# Altium footprint library OBDH_Ed01r1.PcbLib: 5 footprints
Each footprint in its own frame and in the unit in brackets; x right, y up, seen from the top. Pads: shape width x height; smd on the part's side, far side on the other; paste and mask are expansions set on the pad; w line width, h text height; cw(c..) or ccw(c..) is an arc to the next point about the centre after c.
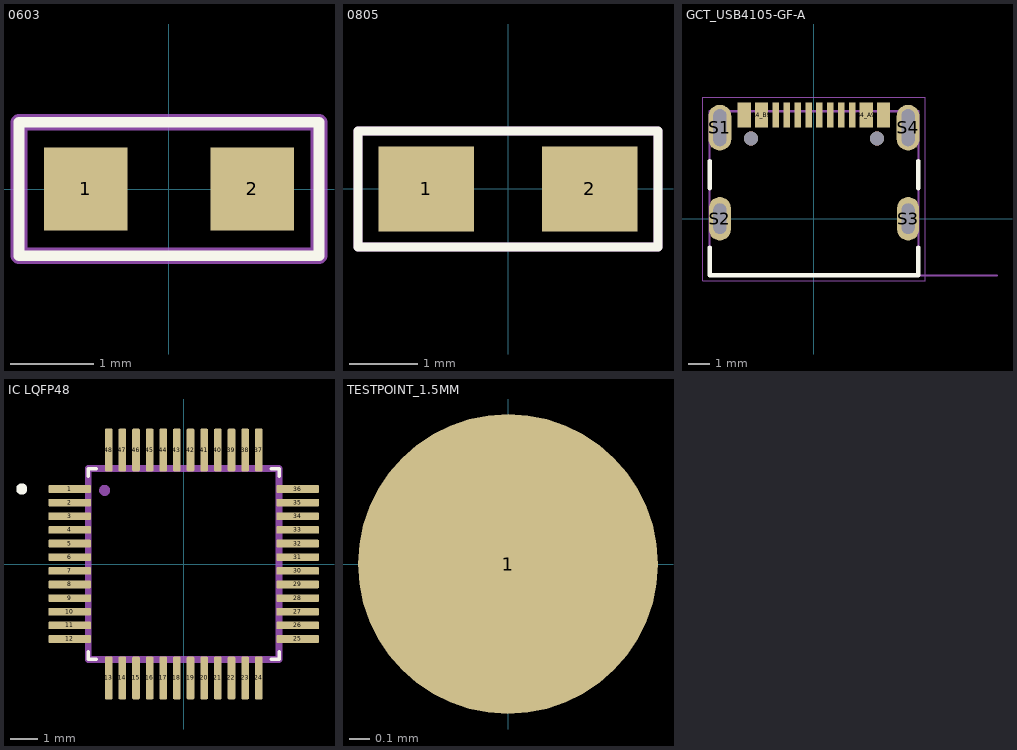
[diagram p0: the footprints below, top view; thin cyan lines are the x and y axes]

## 0603 [mm] "GT1021_ED02r2"
height 0.9
pads (2):
  rect 1x1 smd paste-0.08 mask+0.05: 1(-1,0) 2(1,0)
Top Overlay:
  lines w0.127: -1.8,-0.8 -1.8,0.8 1.8,0.8 1.8,-0.8 -1.8,-0.8
Top Assembly:
  lines w0.2: -1.8,-0.8 1.8,-0.8 1.8,0.8 -1.8,0.8 -1.8,-0.8
  text "'.Designator'" at -3.387,-0.317 h1.4
3D body "Indutor_0603.stp": height 0.46, standoff 0.01, extent -0.8,-0.394 0.8,0.406

## 0805 [mm] "INDUTOR 0805"
height 1
pads (2):
  rect 1.4x1.25 smd mask+0.1: 1(-1.2,0) 2(1.2,0)
Top Overlay:
  lines w0.127: -2.2,-0.85 -2.2,0.85 2.2,0.85 2.2,-0.85 -2.2,-0.85
Top Assembly:
  lines w0.127: -2.2,-0.85 -2.2,0.85 2.2,0.85 2.2,-0.85 -2.2,-0.85
  text "'.Designator'" at -1.676,-0.178 h1.27
3D body "Indutor_0805.stp": height 0.51, standoff 0.01, extent -1,-0.625 1,0.625

## GCT_USB4105-GF-A [mm]
height 3.31
pads (18):
  rect 0.6x1.15 smd: A1_B12(-3.2,4.755) A4_B9(-2.4,4.755) B1_A12(3.2,4.755) B4_A9(2.4,4.755)
  rect 0.3x1.15 smd: A5(-1.25,4.755) A6(-0.25,4.755) A7(0.25,4.755) A8(1.25,4.755) B5(1.75,4.755) B6(0.75,4.755) B7(-0.75,4.755) B8(-1.75,4.755)
  oval 1.05x2.1 hole 0.6 slot 1.7 at 90 deg: S1(-4.32,4.18) S4(4.32,4.18)
  oval 1x2 hole 0.6 slot 1.4 at 90 deg: S2(-4.32,0) S3(4.32,0)
  round 0.65 hole 0.65 unplated: ""(-2.89,3.68) ""(2.89,3.68)
Top Overlay:
  lines w0.2: -4.79,-1.32 -4.79,-2.6 4.79,-2.6 4.79,-1.32 ; -4.79,1.4 -4.79,2.65 ; 4.79,1.4 4.79,2.65
Mechanical 13:
  lines w0.1: 4.8,-2.6 8.4,-2.6 ; -4.79,-2.6 4.79,-2.6 4.79,4.93 -4.79,4.93 -4.79,-2.6
  text "PCB EDGE" at 5.4,-2.5 h0.41
Mechanical 15:
  lines w0.05: -5.1,-2.85 -5.1,5.58 5.1,5.58 5.1,-2.85 -5.1,-2.85
3D body "step_temp.STEP": height 3.31, standoff -0.85, extent -4.79,-2.6 4.79,5.11

## IC LQFP48 [mm] "NG3_ED03r1"
height 1.4
pads (48):
  rrect25% 1.56x0.28 smd paste-0.037 mask+0.07: 1(-4.18,2.75) 2(-4.18,2.25) 3(-4.18,1.75) 4(-4.18,1.25) 5(-4.18,0.75) 6(-4.18,0.25) 7(-4.18,-0.25) 8(-4.18,-0.75) 9(-4.18,-1.25) 10(-4.18,-1.75) 11(-4.18,-2.25) 12(-4.18,-2.75) 25(4.18,-2.75) 26(4.18,-2.25) 27(4.18,-1.75) 28(4.18,-1.25) 29(4.18,-0.75) 30(4.18,-0.25) 31(4.18,0.25) 32(4.18,0.75) 33(4.18,1.25) 34(4.18,1.75) 35(4.18,2.25) 36(4.18,2.75)
  rrect25% 0.28x1.56 smd paste-0.037 mask+0.07: 13(-2.75,-4.18) 14(-2.25,-4.18) 15(-1.75,-4.18) 16(-1.25,-4.18) 17(-0.75,-4.18) 18(-0.25,-4.18) 19(0.25,-4.18) 20(0.75,-4.18) 21(1.25,-4.18) 22(1.75,-4.18) 23(2.25,-4.18) 24(2.75,-4.18) 37(2.75,4.18) 38(2.25,4.18) 39(1.75,4.18) 40(1.25,4.18) 41(0.75,4.18) 42(0.25,4.18) 43(-0.25,4.18) 44(-0.75,4.18) 45(-1.25,4.18) 46(-1.75,4.18) 47(-2.25,4.18) 48(-2.75,4.18)
Top Overlay:
  circle w0.2: c-5.94,2.75 r0.1
  lines w0.127: -3.5,-3.21 -3.5,-3.5 -3.21,-3.5 ; -3.5,3.21 -3.5,3.5 -3.21,3.5 ; 3.21,-3.5 3.5,-3.5 3.5,-3.21 ; 3.21,3.5 3.5,3.5 3.5,3.21
Top Assembly:
  circle w0.2: c-2.9,2.7 r0.1
  lines w0.254: -3.5,-3.5 3.5,-3.5 3.5,3.5 -3.5,3.5 -3.5,-3.5
  text "'.Designator'" at -4.841,-0.829 h2
3D body "LQFP48-7x7-0_50.step": height 1.41, standoff -0.04, extent -4.5,-4.5 4.5,4.5

## TESTPOINT_1.5MM [mm] "GT1021_ED04R1"
pads (1):
  round 1.5 smd paste-1: 1(0,0)
Top Assembly:
  text "'.Designator'" at -2.667,-0.381 h1.52